# Altium schematic symbol library Power.SchLib: 13 symbols
Pins are listed as number, name and electrical type; pins without a type are passive.

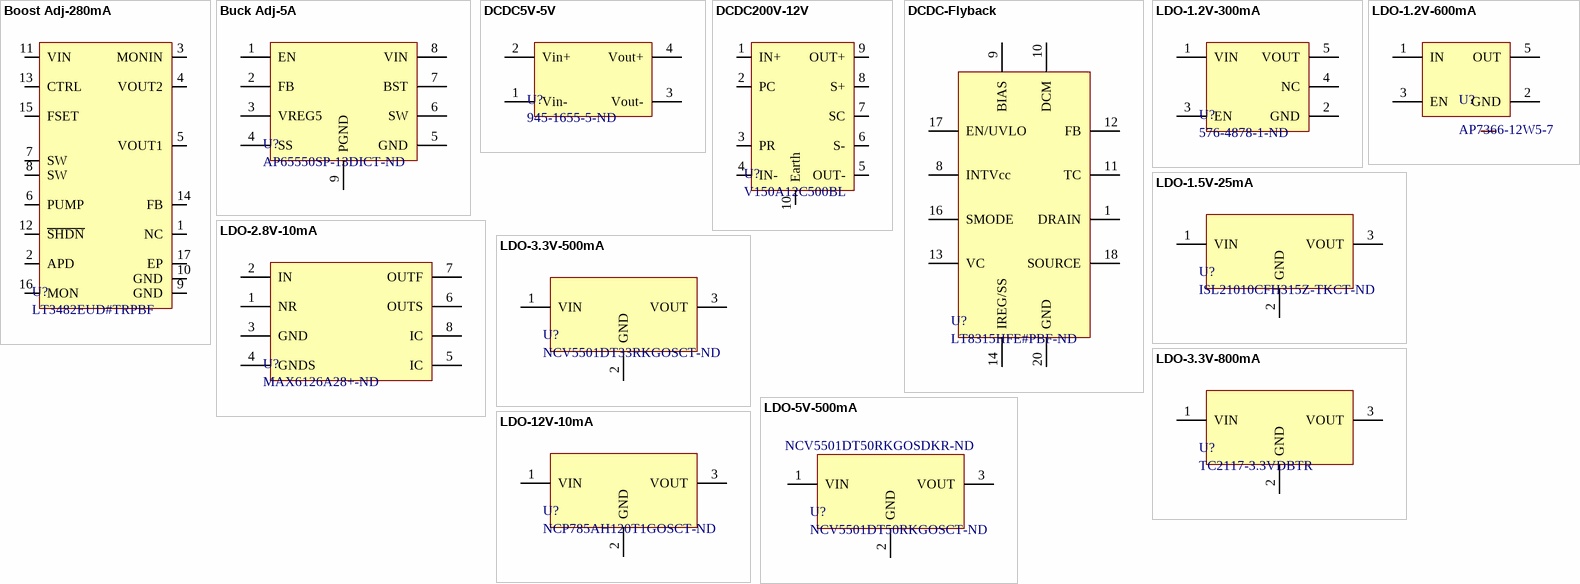
[diagram p0: symbols Boost Adj-280mA to LDO-12V-10mA]

## Boost Adj-280mA
designator U?, comment LT3482EUD#TRPBF
IC REG BOOST ADJ 280MA 16QFN; Manufacturer: Analog Devices / Linear Technology; Output Voltage: 90V; Min Input Voltage: 2.5V; Number of Outputs: 1; Switching Frequency: 1.1MHz; Synchronous Rectifier: No; Output Type: Adjustable; Supplier 1: Digi-Key; Manufacturer Part Number: LT3482EUD#TRPBF; Stock 1: 2233; Pricing 1: 1=8.73, 25=4.8284 (USD); Case/Package: QFN EP; Number of Pins: 16; Min Operating Temperature: -40°C; Max Operating Temperature: 85°C; Output Current: 280mA; Package Quantity: 2500; Packaging: Tape and Reel; Lead Free: Lead Free; ComponentLink1URL: http://www.linear.com/docs/18598?src-supplier=Digi-Key; ComponentLink1Description: http://www.linear.com/docs/18598?src-supplier=Digi-Key; ComponentLink2URL: http://datasheet.iiic.cc/linear_technology/LT3482EUD_TRPBF.pdf?src-supplier=IIIC; ComponentLink2Description: http://datasheet.iiic.cc/linear_technology/LT3482EUD_TRPBF.pdf?src-supplier=IIIC; Supplier Part Number 1: LT3482EUD#TRPBFDKR-ND
footprint QFN-16 (3x3mm) (QFN, 16-Leads, Body 3.00x3.00mm, Pitch 0.50mm, Thermal Pad 1.45x1.45mm, IPC Medium Density)
pins: 1 NC, 2 APD, 3 MONIN, 4 VOUT2, 5 VOUT1, 6 PUMP, 7 SW, 8 SW, 9 GND, 10 GND, 11 VIN, 12 ~{SHDN}, 13 CTRL, 14 FB, 15 FSET, 16 MON, 17 EP

## Buck Adj-5A
designator U?, comment AP65550SP-13DICT-ND
IC REG BUCK ADJUSTABLE 5A 8SO; Manufacturer: Diodes; Switching Frequency: 650kHz; Number of Outputs: 1; Output Voltage: 6V; Min Input Voltage: 4.5V; Max Input Voltage: 18V; Min Output Voltage: 760mV; Synchronous Rectifier: Yes; Operating Supply Current: 900uA; Output Configuration: Positive; Supplier 1: Digi-Key; Manufacturer Part Number: AP65550SP-13; Stock 1: 5524; Pricing 1: 1=1.33, 10=1.192, 25=1.1312, 100=0.8686, 250=0.7676, 500=0.7272, 1000=0.5656 (USD); Mount: Surface Mount; Case/Package: SOIC; Contact Plating: Tin; Min Operating Temperature: -40°C; Max Operating Temperature: 85°C; Packaging: Tape and Reel; Max Output Current: 5A; Max Output Voltage: 6V; Output Current: 5A; Package Quantity: 2500; Min Supply Voltage: 4.5V; Operating Supply Voltage: 18V; Output Type: Adjustable; Lead Free: Lead Free; ComponentLink1URL: http://diodes.com/datasheets/AP65550.pdf?src-supplier=Avnet; ComponentLink1Description: http://diodes.com/datasheets/AP65550.pdf?src-supplier=Avnet; Supplier Part Number 1: AP65550SP-13DIDKR-ND
footprint 8-SOIC (SOIC, 8-Leads, Body 4.90x3.90mm, Pitch 1.27mm, Thermal Pad 3.35x2.71mm, IPC Medium Density)
pins: 1 EN, 2 FB, 3 VREG5, 4 SS, 5 GND, 6 SW, 7 BST, 8 VIN, 9 PGND

## DCDC5V-5V
designator U?, comment 945-1655-5-ND
DC DC CONVERTER 5V 1W; Manufacturer: Recom; Manufacturer Part Number: ROE-0505S; Min Input Voltage: 4.5V; Max Input Voltage: 5.5V; Number of Outputs: 1; Max Output Current: 200mA; Efficiency: 75%; Isolation Voltage: 1kV; Isolation: Isolated; Supplier 1: Digi-Key; Stock 1: 4706; Pricing 1: 1=2.64, 5=2.604, 10=2.567, 25=2.4916, 50=2.416, 100=2.3405, 250=2.265, 500=2.114 (USD); Mount: Through Hole; Case/Package: SIP; Number of Pins: 4; Weight: 1.4g; Min Operating Temperature: -40°C; Max Operating Temperature: 85°C; Nominal Output Voltage: 5V; Output Current: 200mA; Output Voltage: 5V; Power Rating: 1W; Nominal Input Voltage: 5V; Output Power: 1W; Package Quantity: 42; Packaging: Rail/Tube; Min Input Voltage (DC): 4.5V; Voltage - Output 1: 5V; Current - Output 1: 200mA; Max Input Voltage (DC): 5.5V; Max Output Power: 1W; Max Power Dissipation: 1W; Max Output Voltage: 5V; Length: 11.5mm; Height: 10mm; Width: 6mm; Depth: 6mm; REACH SVHC: No SVHC; Lead Free: Lead Free; ComponentLink1URL: http://www.farnell.com/datasheets/2787770.pdf?src-supplier=Element14; ComponentLink1Description: http://www.farnell.com/datasheets/2787770.pdf?src-supplier=Element14; ComponentLink2URL: http://www.mouser.com/ds/2/468/ROE-766139.pdf?src-supplier=Mouser; ComponentLink2Description: http://www.mouser.com/ds/2/468/ROE-766139.pdf?src-supplier=Mouser; ComponentLink3URL: https://www.recom-power.com/pdf/Econoline/ROE.pdf?src-supplier=Digi-Key; ComponentLink3Description: https://www.recom-power.com/pdf/Econoline/ROE.pdf?src-supplier=Digi-Key; ComponentLink4URL: http://www.recom-international.com/pdf/Econoline/ROE.pdf?src-supplier=Future+Electronics; ComponentLink4Description: http://www.recom-international.com/pdf/Econoline/ROE.pdf?src-supplier=Future+Electronics; ComponentLink5URL: http://uk.rs-online.com/webdocs/1373/0900766b81373201.pdf?src-supplier=RSComponents; ComponentLink5Description: http://uk.rs-online.com/webdocs/1373/0900766b81373201.pdf?src-supplier=RSComponents; ComponentLink6URL: http://www.produktinfo.conrad.com/datenblaetter/675000-699999/676228-da-01-en-DC_DC_WANDLER_ROE_0505S.pdf?src-supplier=Conrad; ComponentLink6Description: http://www.produktinfo.conrad.com/datenblaetter/675000-699999/676228-da-01-en-DC_DC_WANDLER_ROE_0505S.pdf?src-supplier=Conrad; Supplier Part Number 1: 945-1655-5-ND
footprint ROE5050
pins: 1 Vin-, 2 Vin+, 3 Vout-, 4 Vout+

## DCDC200V-12V
designator U?, comment V150A12C500BL
DC DC CONVERTER 12V 500W; Manufacturer: Vicor; Number of Outputs: 1; Efficiency: 87.6%; Min Input Voltage: 100V; Max Input Voltage: 200V; Max Output Current: 41.67A; Isolation Voltage: 3kV; Isolation: Isolated; Supplier 1: Digi-Key; Manufacturer Part Number: V150A12C500BL; Stock 1: 3; Pricing 1: 1=313.93, 10=303.804 (USD); Mount: Through Hole; Case/Package: Full Brick; Min Operating Temperature: -20°C; Max Operating Temperature: 100°C; Package Quantity: 1; Packaging: Bulk; Voltage - Output 1: 12V; Max Power Dissipation: 500W; Features: UVLO,OVP; Output Power: 500W; Output Voltage: 12V; Length: 4.6inch; Height: 0.62inch; Width: 2.2inch; Lead Free: Contains Lead; ComponentLink1URL: http://cdn.vicorpower.com/documents/datasheets/ds_150vin-maxi-family.pdf?src-supplier=Future+Electronics; ComponentLink1Description: http://cdn.vicorpower.com/documents/datasheets/ds_150vin-maxi-family.pdf?src-supplier=Future+Electronics; ComponentLink2URL: http://cdn.vicorpower.com/documents/datasheets/ds_150vin-maxi-family.pdf?src-supplier=Digi-Key; ComponentLink2Description: http://cdn.vicorpower.com/documents/datasheets/ds_150vin-maxi-family.pdf?src-supplier=Digi-Key; Supplier Part Number 1: 1102-1229-ND
footprint DCDC-200V-12V-500W (Vicor V50A12C500BL)
pins: 1 IN+, 2 PC, 3 PR, 4 IN-, 5 OUT-, 6 S-, 7 SC, 8 S+, 9 OUT+, 10 Earth

## DCDC-Flyback
designator U?, comment LT8315HFE#PBF-ND
IC REG FLYBACK 800MA 20TSSOP; Supplier 1: Digi-Key; Supplier Part Number 1: LT8315HFE#PBF-ND
footprint 20-TSSOP (TSOP, 20-Leads, Body 5.00x4.40mm, Pitch 0.65mm, IPC Medium Density)
pins: 1 DRAIN, 8 INTVcc, 9 BIAS, 10 DCM, 11 TC, 12 FB, 13 VC, 14 IREG/SS, 16 SMODE, 17 EN/UVLO, 18 SOURCE, 20 GND

## LDO-1.2V-300mA
designator U?, comment 576-4878-1-ND
IC REG LINEAR 1.2V 300MA SOT23-5; Manufacturer: Microchip; Manufacturer Part Number: MIC5504-1.2YM5-TR; Dropout Voltage: 160mV; Number of Regulators: 1; Min Current Limit: 400mA; Supplier 1: Digi-Key; Stock 1: 1045; Pricing 1: 1=0.11, 25=0.09, 100=0.08 (USD); Mount: Surface Mount; Case/Package: SOT-23-5; Min Operating Temperature: -40°C; Max Operating Temperature: 125°C; Packaging: Cut Tape; Output Voltage: 1.2V; Output Current: 300mA; ComponentLink1URL: http://www.microchip.com/mymicrochip/filehandler.aspx?ddocname=en580292&src-supplier=Digi-Key; ComponentLink1Description: http://www.microchip.com/mymicrochip/filehandler.aspx?ddocname=en580292&src-supplier=Digi-Key; Supplier Part Number 1: 576-4878-6-ND
footprint SOT-23-5 (SOT23, 5-Leads, Body 3.00x2.75mm, Pitch 0.95mm, IPC Medium Density)
pins: 1 VIN, 2 GND, 3 EN, 4 NC, 5 VOUT

## LDO-1.2V-600mA
designator U?, comment AP7366-12W5-7
IC REG LINEAR 1.2V 600MA SOT-25; Manufacturer 1: Diodes Inc.; Supplier 1: Avnet; Manufacturer Part Number 1: AP7366-12W5-7; Stock 1: 0; Pricing 1: 3000=0.06212, 6000=0.05989, 12000=0.05809, 18000=0.05639, 24000=0.05427 (USD); Supplier Part Number 1: AP7366-12W5-7
footprint SOT-25-5 (SOT23, 5-Leads, Body 3.00x2.85mm, Pitch 0.95mm, IPC Medium Density)
pins: 1 IN, 2 GND, 3 EN, 5 OUT

## LDO-1.5V-25mA
designator U?, comment ISL21010CFH315Z-TKCT-ND
IC VREF SERIES 0.2% SOT23-3; Manufacturer: Renesas; Output Type: Fixed; Min Output Voltage: 1.5V; Output Current: 25mA; Temperature Coefficient: 50ppm/°C; Operating Supply Current: 100uA; Supplier 1: Digi-Key; Manufacturer Part Number: ISL21010CFH315Z-TK; Stock 1: 11; Pricing 1: 1=1.65, 10=1.484, 25=1.4, 100=1.12, 250=0.98, 500=0.952 (USD); Mount: Surface Mount; Case/Package: TO-236-3; Min Operating Temperature: -40°C; Max Operating Temperature: 125°C; Reference Type: Series; Packaging: Tape and Reel; Tolerance: 0.2%; Supplier Part Number 1: ISL21010CFH315Z-TKDKR-ND
footprint SOT-23-3 (SOT23, 3-Leads, Body 2.90x2.40mm, Pitch 0.92mm, IPC Medium Density)
pins: 1 VIN, 2 GND, 3 VOUT

## LDO-2.8V-10mA
designator U?, comment MAX6126A28+-ND
IC VREF SERIES 0.06% 8UMAX; Manufacturer: Maxim; Output Voltage: 2.048V; Max Input Voltage: 13V; Max Output Current: 10mA; Nominal Supply Current: 380uA; Max Supply Current: 725uA; Min Output Voltage: 2.8V; Temperature Coefficient: 5ppm/°C; Output Type: Fixed; Supplier 1: Digi-Key; Manufacturer Part Number: MAX6126A28+; Stock 1: 100; Pricing 1: 1=6.33, 10=5.719, 25=5.4524, 100=4.5217, 250=4.12268, 500=4.08944 (USD); Mount: Surface Mount; Case/Package: UMAX; Number of Pins: 8; Min Operating Temperature: -40°C; Max Operating Temperature: 125°C; Packaging: Rail/Tube; Package Quantity: 50; Tolerance: 0.06%; Operating Supply Current: 725uA; Output Current: 10mA; Reference Type: Series; Radiation Hardening: No; ComponentLink1URL: http://datasheets.maxim-ic.com/en/ds/MAX6126.pdf?src-supplier=Avnet; ComponentLink1Description: http://datasheets.maxim-ic.com/en/ds/MAX6126.pdf?src-supplier=Avnet; ComponentLink2URL: http://datasheets.maxim-ic.com/en/ds/MAX6126.pdf?src-supplier=Avnet+Europe; ComponentLink2Description: http://datasheets.maxim-ic.com/en/ds/MAX6126.pdf?src-supplier=Avnet+Europe; ComponentLink3URL: https://media.digikey.com/pdf/Data%20Sheets/Maxim%20PDFs/PartNumberBreakdown_ds.pdf?src-supplier=Digi-Key; ComponentLink3Description: https://media.digikey.com/pdf/Data%20Sheets/Maxim%20PDFs/PartNumberBreakdown_ds.pdf?src-supplier=Digi-Key; Supplier Part Number 1: MAX6126A28+-ND
footprint 8MSOP (TSOP, 8-Leads, Body 3.00x3.00mm, Pitch 0.65mm, IPC Medium Density)
pins: 1 NR, 2 IN, 3 GND, 4 GNDS, 5 IC, 6 OUTS, 7 OUTF, 8 IC

## LDO-3.3V-500mA
designator U?, comment NCV5501DT33RKGOSCT-ND
IC REG LINEAR 3.3V 500MA DPAK; Manufacturer: ON Semiconductor; Min Input Voltage: 2.5V; Number of Outputs: 1; Max Input Voltage: 16V; Dropout Voltage: 230mV; Polarity: Positive; Accuracy: 2.9%; Output Type: Fixed; Supplier 1: Digi-Key; Manufacturer Part Number: NCV5501DT33RKG; Stock 1: 921; Pricing 1: 1=0.8, 10=0.7, 25=0.6576, 100=0.4984, 250=0.4242, 500=0.403, 1000=0.30755 (USD); Mount: Surface Mount; Case/Package: DPAK; Number of Pins: 3; Contact Plating: Tin,Matte; Min Operating Temperature: -40°C; Max Operating Temperature: 125°C; Output Voltage: 3.3V; Output Current: 500mA; Packaging: Tape and Reel; Max Output Current: 500mA; Package Quantity: 1; Number of Regulators: 1; Min Current Limit: 500mA; Min Output Voltage: 3.3V; Nominal Output Voltage: 3.3V; Output Voltage Accuracy: 2.9%; Length: 6.73mm; Height: 2.38mm; Width: 6.22mm; Radiation Hardening: No; REACH SVHC: No SVHC; Lead Free: Lead Free; ComponentLink1URL: http://www.onsemi.com/pub_link/Collateral/NCP5500-D.PDF?src-supplier=Future+Electronics; ComponentLink1Description: http://www.onsemi.com/pub_link/Collateral/NCP5500-D.PDF?src-supplier=Future+Electronics; ComponentLink2URL: http://www.onsemi.cn/pub_link/Collateral/NCP5500-D.PDF?src-supplier=Avnet; ComponentLink2Description: http://www.onsemi.cn/pub_link/Collateral/NCP5500-D.PDF?src-supplier=Avnet; ComponentLink3URL: http://www.onsemi.com/pub/Collateral/NCP5500-D.PDF?src-supplier=Avnet; ComponentLink3Description: http://www.onsemi.com/pub/Collateral/NCP5500-D.PDF?src-supplier=Avnet; ComponentLink4URL: http://www.onsemi.com/pub/Collateral/NCP5500-D.PDF?src-supplier=Digi-Key; ComponentLink4Description: http://www.onsemi.com/pub/Collateral/NCP5500-D.PDF?src-supplier=Digi-Key; Supplier Part Number 1: NCV5501DT33RKGOSDKR-ND
footprint DPAK-TO252 (D-PAK, 3-Pads, Body 6.20x6.73mm (max), IPC Medium Density)
pins: 1 VIN, 2 GND, 3 VOUT

## LDO-3.3V-800mA
designator U?, comment TC2117-3.3VDBTR
IC REG LIN 3.3V 800MA SOT223-3; Manufacturer: Microchip; Dropout Voltage: 1.2V; Max Input Voltage: 6V; Min Input Voltage: 2.7V; Number of Outputs: 1; Polarity: Positive; Accuracy: 0.5%; Quiescent Current: 80uA; Output Type: Fixed; Supplier 1: Digi-Key; Manufacturer Part Number: TC2117-3.3VDBTR; Stock 1: 3126; Pricing 1: 1=0.73, 25=0.61, 100=0.55 (USD); Mount: Surface Mount; Case/Package: SOT-223-3; Number of Pins: 3; Min Operating Temperature: -40°C; Max Operating Temperature: 125°C; Output Current: 800mA; Max Output Current: 800mA; Output Voltage: 3.3V; Max Supply Voltage: 6V; Min Supply Voltage: 2.7V; Package Quantity: 4000; Packaging: Tape and Reel; Nominal Output Voltage: 3.3V; Number of Regulators: 1; Min Output Voltage: 3.3V; Max Output Voltage: 3.3V; Termination: SMD/SMT; Length: 6.7mm; Height: 1.7mm; Width: 3.7mm; Radiation Hardening: No; REACH SVHC: No SVHC; Lead Free: Lead Free; ComponentLink1URL: http://www.farnell.com/datasheets/1669439.pdf?src-supplier=Element14; ComponentLink1Description: http://www.farnell.com/datasheets/1669439.pdf?src-supplier=Element14; ComponentLink2URL: http://ww1.microchip.com/downloads/en/DeviceDoc/21665D.pdf?src-supplier=Avnet+Europe; ComponentLink2Description: http://ww1.microchip.com/downloads/en/DeviceDoc/21665D.pdf?src-supplier=Avnet+Europe; ComponentLink3URL: http://www.microchip.com/mymicrochip/filehandler.aspx?ddocname=en023833&src-supplier=Digi-Key; ComponentLink3Description: http://www.microchip.com/mymicrochip/filehandler.aspx?ddocname=en023833&src-supplier=Digi-Key; ComponentLink4URL: http://ww1.microchip.com/downloads/en/DeviceDoc/21665D.pdf?src-supplier=Future+Electronics; ComponentLink4Description: http://ww1.microchip.com/downloads/en/DeviceDoc/21665D.pdf?src-supplier=Future+Electronics; ComponentLink5URL: http://ww1.microchip.com/downloads/en/DeviceDoc/21665D.pdf?src-supplier=Avnet; ComponentLink5Description: http://ww1.microchip.com/downloads/en/DeviceDoc/21665D.pdf?src-supplier=Avnet; ComponentLink6URL: http://www.farnell.com/datasheets/1669439.pdf?src-supplier=Newark; ComponentLink6Description: http://www.farnell.com/datasheets/1669439.pdf?src-supplier=Newark; Supplier Part Number 1: TC2117-3.3VDBDKR-ND
footprint SOT223 (SOT223, 4-Leads, Body 6.50x7.00mm (avg), Pitch 2.30mm, IPC Medium Density)
pins: 1 VIN, 2 GND, 3 VOUT

## LDO-5V-500mA
designator U?, comment NCV5501DT50RKGOSCT-ND  Supplier Part Number 1: NCV5501DT50RKGOSDKR-ND
IC REG LINEAR 5V 500MA DPAK; Manufacturer: ON Semiconductor; Min Input Voltage: 2.5V; Number of Outputs: 1; Max Input Voltage: 16V; Dropout Voltage: 230mV; Polarity: Positive; Accuracy: 2.9%; Min Output Voltage: 1.25V; Output Type: Fixed; Manufacturer Part Number: NCV5501DT50RKG; Stock 1: 2168; Pricing 1: 1=0.81, 10=0.71, 25=0.6676, 100=0.506, 250=0.4306, 500=0.40908, 1000=0.31219 (USD); Mount: Surface Mount; Case/Package: DPAK; Number of Pins: 3; Contact Plating: Tin,Matte; Min Operating Temperature: -40°C; Max Operating Temperature: 125°C; Output Voltage: 5V; Output Current: 500mA; Packaging: Tape and Reel; Max Output Current: 500mA; Package Quantity: 2500; Number of Regulators: 1; Min Current Limit: 500mA; Output Voltage Accuracy: 2.9%; Length: 6.73mm; Height: 2.38mm; Width: 6.22mm; Radiation Hardening: No; Lead Free: Lead Free; ComponentLink1URL: https://www.verical.com/server-webapp/html/getDatasheet?partID=121510&src-supplier=Verical; ComponentLink1Description: https://www.verical.com/server-webapp/html/getDatasheet?partID=121510&src-supplier=Verical; ComponentLink2URL: http://www.onsemi.com/pub_link/Collateral/NCP5500-D.PDF?src-supplier=Future+Electronics; ComponentLink2Description: http://www.onsemi.com/pub_link/Collateral/NCP5500-D.PDF?src-supplier=Future+Electronics; ComponentLink3URL: http://www.onsemi.com/pub/Collateral/NCP5500-D.PDF?src-supplier=Avnet; ComponentLink3Description: http://www.onsemi.com/pub/Collateral/NCP5500-D.PDF?src-supplier=Avnet; ComponentLink4URL: http://www.onsemi.com/pub_link/Collateral/NCP5500-D.PDF?src-supplier=Digi-Key; ComponentLink4Description: http://www.onsemi.com/pub_link/Collateral/NCP5500-D.PDF?src-supplier=Digi-Key; Supplier 1: Digi-Key
footprint DPAK-TO252 (D-PAK, 3-Pads, Body 6.20x6.73mm (max), IPC Medium Density)
pins: 1 VIN, 2 GND, 3 VOUT

## LDO-12V-10mA
designator U?, comment NCP785AH120T1GOSCT-ND
IC REG LINEAR 12V 10MA SOT89-3; Manufacturer: ON Semiconductor; Number of Regulators: 1; Min Current Limit: 10.5mA; Min Input Voltage (DC): 55V; Max Input Voltage (DC): 450V; Min Input Voltage: 85V; Polarity: Positive; Reference Voltage: 1.25V; Quiescent Current: 22uA; Accuracy: 5%; Output Type: Fixed; Supplier 1: Digi-Key; Manufacturer Part Number: NCP785AH120T1G; Stock 1: 2397; Pricing 1: 1=0.83, 10=0.738, 25=0.7, 100=0.5375, 250=0.475, 500=0.45, 1000=0.35 (USD); Mount: Surface Mount; Case/Package: SOT-89; Number of Pins: 3; Min Operating Temperature: -40°C; Max Operating Temperature: 85°C; Packaging: Cut Tape; Output Voltage: 12V; Output Current: 10mA; Nominal Output Voltage: 12V; Max Input Voltage: 450V; Number of Outputs: 1; Length: 4.6mm; Height: 1.6mm; Width: 2.6mm; REACH SVHC: No SVHC; Lead Free: Lead Free; ComponentLink1URL: http://www.onsemi.com/pub/Collateral/NCP785A-D.PDF?src-supplier=Digi-Key; ComponentLink1Description: http://www.onsemi.com/pub/Collateral/NCP785A-D.PDF?src-supplier=Digi-Key; ComponentLink2URL: http://www.farnell.com/datasheets/1948370.pdf?src-supplier=Farnell; ComponentLink2Description: http://www.farnell.com/datasheets/1948370.pdf?src-supplier=Farnell; ComponentLink3URL: http://www.farnell.com/datasheets/1948370.pdf?src-supplier=Element14; ComponentLink3Description: http://www.farnell.com/datasheets/1948370.pdf?src-supplier=Element14; ComponentLink4URL: http://uk.rs-online.com/webdocs/141c/0900766b8141c022.pdf?src-supplier=RSComponents; ComponentLink4Description: http://uk.rs-online.com/webdocs/141c/0900766b8141c022.pdf?src-supplier=RSComponents; ComponentLink5URL: http://www.onsemi.com/pub/Collateral/NCP785A-D.PDF?src-supplier=Avnet; ComponentLink5Description: http://www.onsemi.com/pub/Collateral/NCP785A-D.PDF?src-supplier=Avnet; Supplier Part Number 1: NCP785AH120T1GOSDKR-ND
footprint SOT-89 (SOT89, 3-Leads, Body 4.50x2.50mm, Pitch 1.50mm, Lead Span 3.6mm, IPC Medium Density)
pins: 1 VIN, 2 GND, 3 VOUT